# EAGLE library part MCP23016 (library microchip)
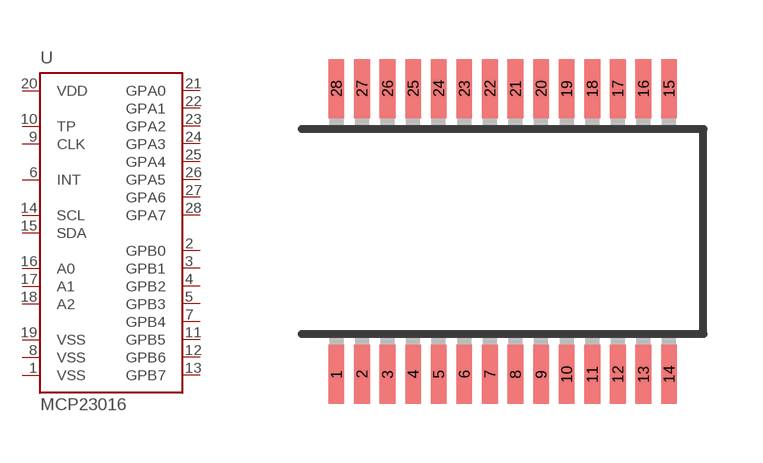
[diagram p136: symbol with the pads of SSOP28; footprint SSOP28]

Designator prefix -

## MCP23016  [SSOP28]
1  VSS  pwr
2  GPB0
3  GPB1
4  GPB2
5  GPB3
6  INT  out
7  GPB4
8  VSS  pwr
9  CLK  in
10  TP  in
11  GPB5
12  GPB6
13  GPB7
14  SCL  in
15  SDA
16  A0  in
17  A1  in
18  A2  in
19  VSS  pwr
20  VDD  pwr
21  GPA0
22  GPA1
23  GPA2
24  GPA3
25  GPA4
26  GPA5
27  GPA6
28  GPA7

## Footprint SSOP28 (pad centres in mm)
Shrink Small Outline Package package type SS
smd 0.4 x 1.5: 1 -4.225,-3.625; 2 -3.575,-3.625; 3 -2.925,-3.625; 4 -2.275,-3.625; 5 -1.625,-3.625; 6 -0.975,-3.625; 7 -0.325,-3.625; 8 0.325,-3.625; 9 0.975,-3.625; 10 1.625,-3.625; 11 2.275,-3.625; 12 2.925,-3.625; 13 3.575,-3.625; 14 4.225,-3.625; 15 4.225,3.625; 16 3.575,3.625; 17 2.925,3.625; 18 2.275,3.625; 19 1.625,3.625; 20 0.975,3.625; 21 0.325,3.625; 22 -0.325,3.625; 23 -0.975,3.625; 24 -1.625,3.625; 25 -2.275,3.625; 26 -2.925,3.625; 27 -3.575,3.625; 28 -4.225,3.625